# Altium schematic symbol library 18650 battery.SCHLIB: 113 symbols (part 2 of 2)
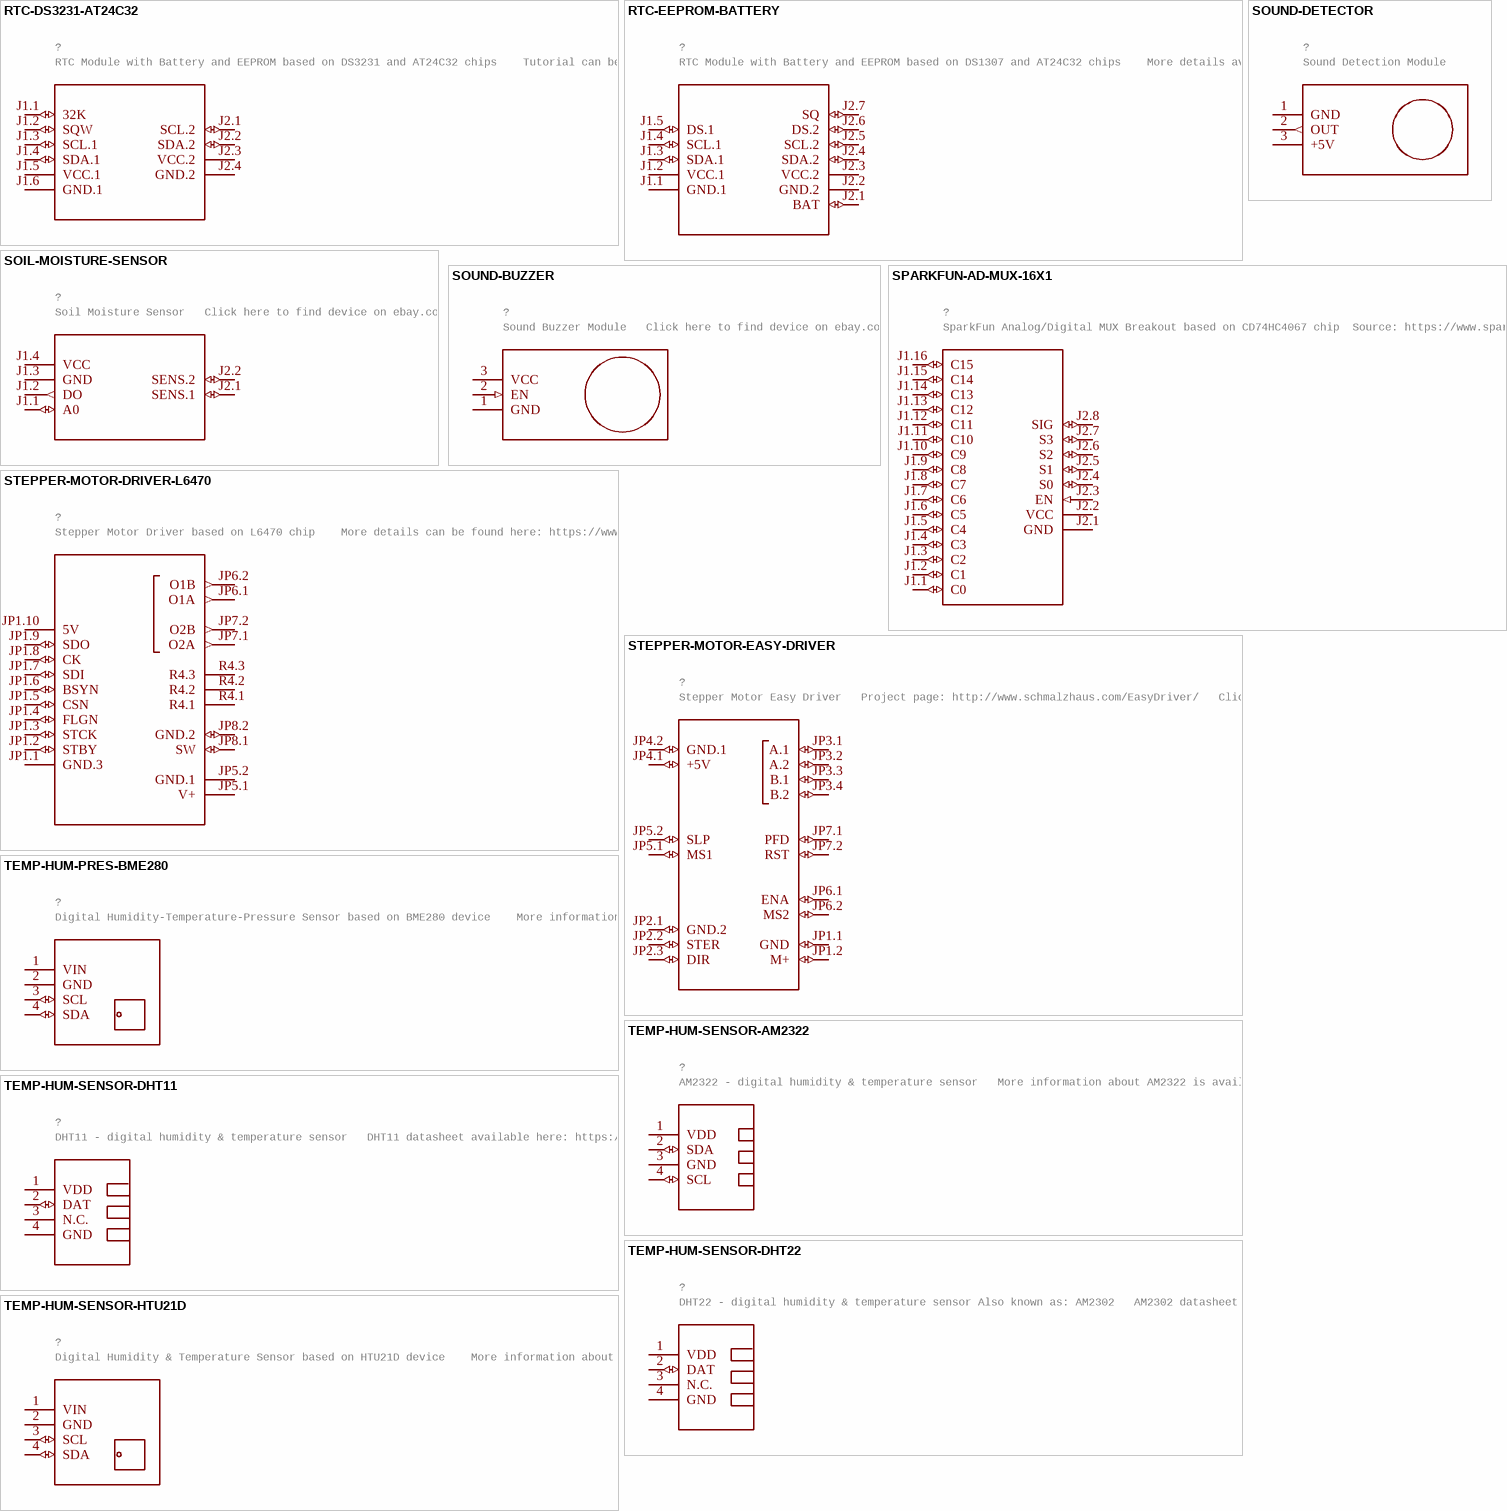
[diagram p13: symbols RTC-DS3231-AT24C32 to TEMP-HUM-SENSOR-HTU21D]

## TEMP-HUM-SENSOR-DHT11
designator ?, comment DHT11 - digital humidity & temperature sensor   DHT11 datasheet available here: https://akizukidenshi.com/download/ds/aosong/DHT11.pdf   Click here to find device on ebay.com
GateName_1: G$1; SymbolName_1: TEMP-HUM-SENSOR-DHT11; LibraryName: 18650 battery; DeviceSetName: TEMP-HUM-SENSOR-DHT11; Package: TEMP-HUM-SENSOR-DHT11
footprint TEMP-HUM-SENSOR-DHT11
pins: 1 VDD (power), 2 DAT (io), 3 N.C., 4 GND (power)

## TEMP-HUM-SENSOR-DHT22
designator ?, comment DHT22 - digital humidity & temperature sensor Also known as: AM2302   AM2302 datasheet available here: http://akizukidenshi.com/download/ds/aosong/AM2302.pdf   Click here to find device on ebay.com
GateName_1: G$1; SymbolName_1: TEMP-HUM-SENSOR-DHT22; LibraryName: 18650 battery; DeviceSetName: TEMP-HUM-SENSOR-DHT22; Package: TEMP-HUM-SENSOR-DHT22
footprint TEMP-HUM-SENSOR-DHT22
pins: 1 VDD (power), 2 DAT (io), 3 N.C., 4 GND (power)

## TEMP-HUM-SENSOR-HTU21D
designator ?, comment Digital Humidity & Temperature Sensor based on HTU21D device    More information about HTU21D device is available here: http://futureeverything.org/wp-content/uploads/2014/05/Humidity-Datasheet.pdf   HTU21D Arudino Library is available here: https://learn.sparkfun.com/tutorials/htu21d-humidity-sensor-hookup-guide/htu21d-library-and-functions   Click here to find device on ebay.com
GateName_1: G$1; SymbolName_1: TEMP-HUM-SENSOR-HTU21D; LibraryName: 18650 battery; DeviceSetName: TEMP-HUM-SENSOR-HTU21D; Package: TEMP-HUM-SENSOR-HTU21D
footprint TEMP-HUM-SENSOR-HTU21D
pins: 1 VIN (power), 2 GND (power), 3 SCL (io), 4 SDA (io)

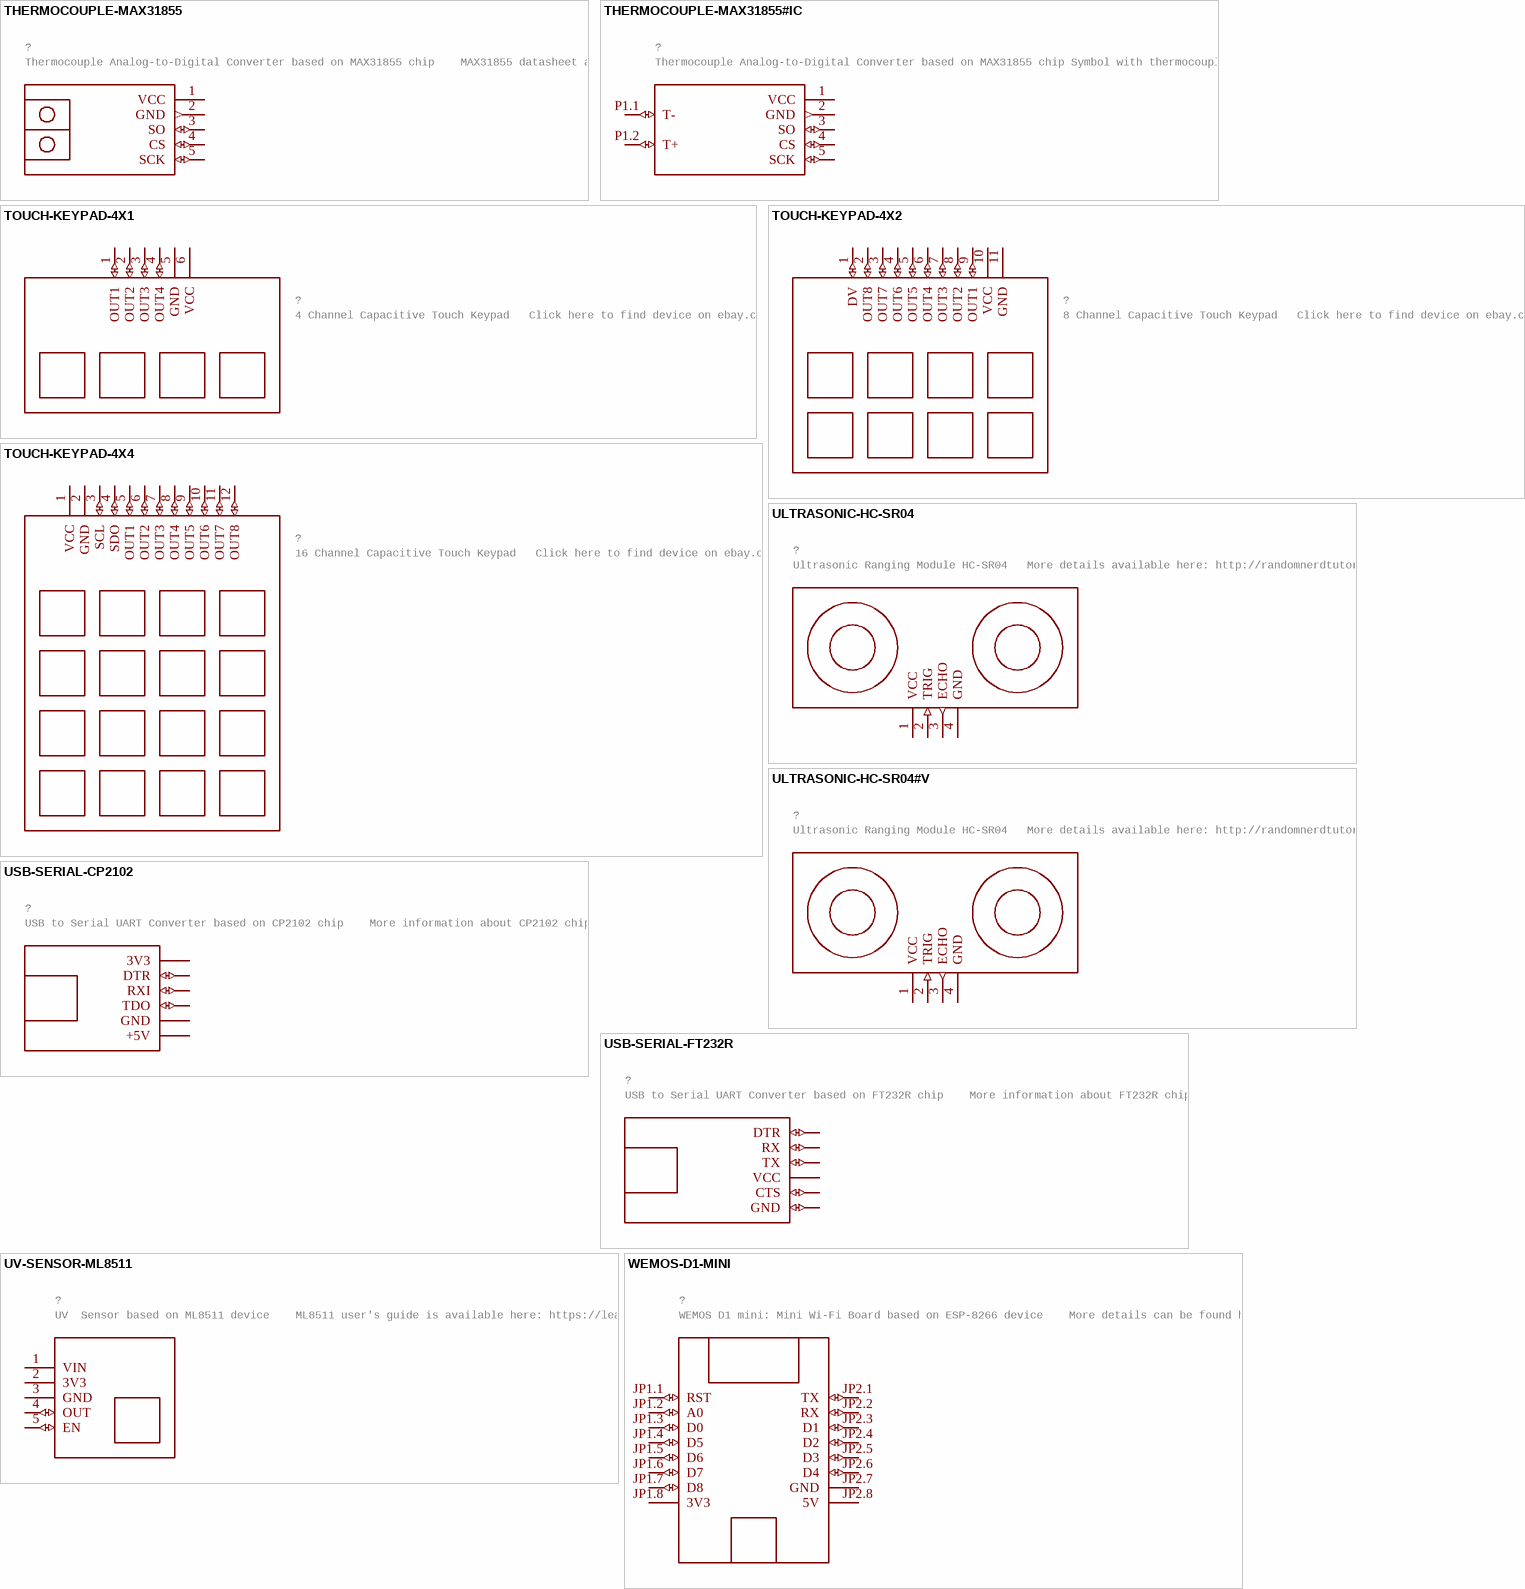
[diagram p10: symbols THERMOCOUPLE-MAX31855 to WEMOS-D1-MINI]

## THERMOCOUPLE-MAX31855
designator ?, comment Thermocouple Analog-to-Digital Converter based on MAX31855 chip    MAX31855 datasheet available here: https://www.maximintegrated.com/en/products/analog/sensors-and-sensor-interface/MAX31855.html   Click here to find device on ebay.com
GateName_1: G$1; SymbolName_1: THERMOCOUPLE-MAX31855; LibraryName: 18650 battery; DeviceSetName: THERMOCOUPLE-MAX31855; Package: THERMOCOUPLE-MAX31855
footprint THERMOCOUPLE-MAX31855
pins: 1 VCC (power), 2 GND (out), 3 SO (io), 4 CS (io), 5 SCK (io)

## THERMOCOUPLE-MAX31855#IC
designator ?, comment Thermocouple Analog-to-Digital Converter based on MAX31855 chip Symbol with thermocouple connector pins    MAX31855 datasheet available here: https://www.maximintegrated.com/en/products/analog/sensors-and-sensor-interface/MAX31855.html   Click here to find device on ebay.com
GateName_1: G$1; SymbolName_1: THERMOCOUPLE-MAX31855#IC; LibraryName: 18650 battery; DeviceSetName: THERMOCOUPLE-MAX31855#IC; Package: THERMOCOUPLE-MAX31855#IC
footprint THERMOCOUPLE-MAX31855#IC
pins: 1 VCC (power), 2 GND (out), 3 SO (io), 4 CS (io), 5 SCK (io), P1.1 T- (io), P1.2 T+ (io)

## TOUCH-KEYPAD-4X1
designator ?, comment 4 Channel Capacitive Touch Keypad   Click here to find device on ebay.com
GateName_1: G$1; SymbolName_1: TOUCH-KEYPAD-4X1; LibraryName: 18650 battery; DeviceSetName: TOUCH-KEYPAD-4X1; Package: TOUCH-KEYPAD-4X1
footprint TOUCH-KEYPAD-4X1
pins: 1 OUT1 (io), 2 OUT2 (io), 3 OUT3 (io), 4 OUT4 (io), 5 GND (power), 6 VCC (power)

## TOUCH-KEYPAD-4X2
designator ?, comment 8 Channel Capacitive Touch Keypad   Click here to find device on ebay.com
GateName_1: G$1; SymbolName_1: TOUCH-KEYPAD-4X2; LibraryName: 18650 battery; DeviceSetName: TOUCH-KEYPAD-4X2; Package: TOUCH-KEYPAD-4X2
footprint TOUCH-KEYPAD-4X2
pins: 1 DV (io), 2 OUT8 (io), 3 OUT7 (io), 4 OUT6 (io), 5 OUT5 (io), 6 OUT4 (io), 7 OUT3 (io), 8 OUT2 (io), 9 OUT1 (io), 10 VCC (power), 11 GND (power)

## TOUCH-KEYPAD-4X4
designator ?, comment 16 Channel Capacitive Touch Keypad   Click here to find device on ebay.com
GateName_1: G$1; SymbolName_1: TOUCH-KEYPAD-4X4; LibraryName: 18650 battery; DeviceSetName: TOUCH-KEYPAD-4X4; Package: TOUCH-KEYPAD-4X4
footprint TOUCH-KEYPAD-4X4
pins: 1 VCC (power), 2 GND (power), 3 SCL (io), 4 SDO (io), 5 OUT1 (io), 6 OUT2 (io), 7 OUT3 (io), 8 OUT4 (io), 9 OUT5 (io), 10 OUT6 (io), 11 OUT7 (io), 12 OUT8 (io)

## ULTRASONIC-HC-SR04
designator ?, comment Ultrasonic Ranging Module HC-SR04   More details available here: http://randomnerdtutorials.com/complete-guide-for-ultrasonic-sensor-hc-sr04/   Click here to find device on ebay.com
GateName_1: G$1; SymbolName_1: ULTRASONIC-HC-SR04; LibraryName: 18650 battery; DeviceSetName: ULTRASONIC-HC-SR04; Package: ULTRASONIC-HC-SR04
footprint ULTRASONIC-HC-SR04
pins: 1 VCC (power), 2 TRIG (in), 3 ECHO (out), 4 GND (power)

## ULTRASONIC-HC-SR04#V
designator ?, comment Ultrasonic Ranging Module HC-SR04   More details available here: http://randomnerdtutorials.com/complete-guide-for-ultrasonic-sensor-hc-sr04/   Click here to find device on ebay.com
GateName_1: G$1; SymbolName_1: ULTRASONIC-HC-SR04; DeviceName: #V; LibraryName: 18650 battery; DeviceSetName: ULTRASONIC-HC-SR04; Package: ULTRASONIC-HC-SR04#V
footprint ULTRASONIC-HC-SR04#V
pins: 1 VCC (power), 2 TRIG (in), 3 ECHO (out), 4 GND (power)

## USB-SERIAL-CP2102
designator ?, comment USB to Serial UART Converter based on CP2102 chip    More information about CP2102 chip is available here: https://www.silabs.com/documents/public/data-sheets/CP2102-9.pdf   Drivers for CP210x devices are available here: http://www.silabs.com/products/development-tools/software/usb-to-uart-bridge-vcp-drivers   Click here to find device on ebay.com
GateName_1: G$1; SymbolName_1: USB-SERIAL-CP2102; LibraryName: 18650 battery; DeviceSetName: USB-SERIAL-CP2102; Package: USB-SERIAL-CP2102
footprint USB-SERIAL-CP2102
pins: 1 3V3 (power), 2 DTR (io), 3 RXI (io), 4 TDO (io), 5 GND (power), 6 +5V (power)

## USB-SERIAL-FT232R
designator ?, comment USB to Serial UART Converter based on FT232R chip    More information about FT232R chip is available here: http://www.ftdichip.com/Products/ICs/FT232R.htm   Click here to find device on ebay.com
GateName_1: G$1; SymbolName_1: USB-SERIAL-FT232R; LibraryName: 18650 battery; DeviceSetName: USB-SERIAL-FT232R; Package: USB-SERIAL-FT232R
footprint USB-SERIAL-FT232R
pins: 1 DTR (io), 2 RX (io), 3 TX (io), 4 VCC (power), 5 CTS (io), 6 GND (io)

## UV-SENSOR-ML8511
designator ?, comment UV  Sensor based on ML8511 device    ML8511 user's guide is available here: https://learn.sparkfun.com/tutorials/ml8511-uv-sensor-hookup-guide/using-the-ml8511   ML8511 datasheet is available here: https://www.mcs.anl.gov/research/projects/waggle/downloads/datasheets/lightsense/ml8511.pdf   Click here to find device on ebay.com
GateName_1: G$1; SymbolName_1: UV-SENSOR-ML8511; LibraryName: 18650 battery; DeviceSetName: UV-SENSOR-ML8511; Package: UV-SENSOR-ML8511
footprint UV-SENSOR-ML8511
pins: 1 VIN (power), 2 3V3 (power), 3 GND (power), 4 OUT (io), 5 EN (io)

## WEMOS-D1-MINI
designator ?, comment WEMOS D1 mini: Mini Wi-Fi Board based on ESP-8266 device    More details can be found here: https://www.wemos.cc/product/d1-mini.html   Click here to find device on ebay.com
GateName_1: G$1; SymbolName_1: WEMOS-D1-MINI; LibraryName: 18650 battery; DeviceSetName: WEMOS-D1-MINI; Package: WEMOS-D1-MINI
footprint WEMOS-D1-MINI
pins: JP1.1 RST (io), JP1.2 A0 (io), JP1.3 D0 (io), JP1.4 D5 (io), JP1.5 D6 (io), JP1.6 D7 (io), JP1.7 D8 (io), JP1.8 3V3 (power), JP2.1 TX (io), JP2.2 RX (io), JP2.3 D1 (io), JP2.4 D2 (io), JP2.5 D3 (io), JP2.6 D4 (io), JP2.7 GND (power), JP2.8 5V (power)

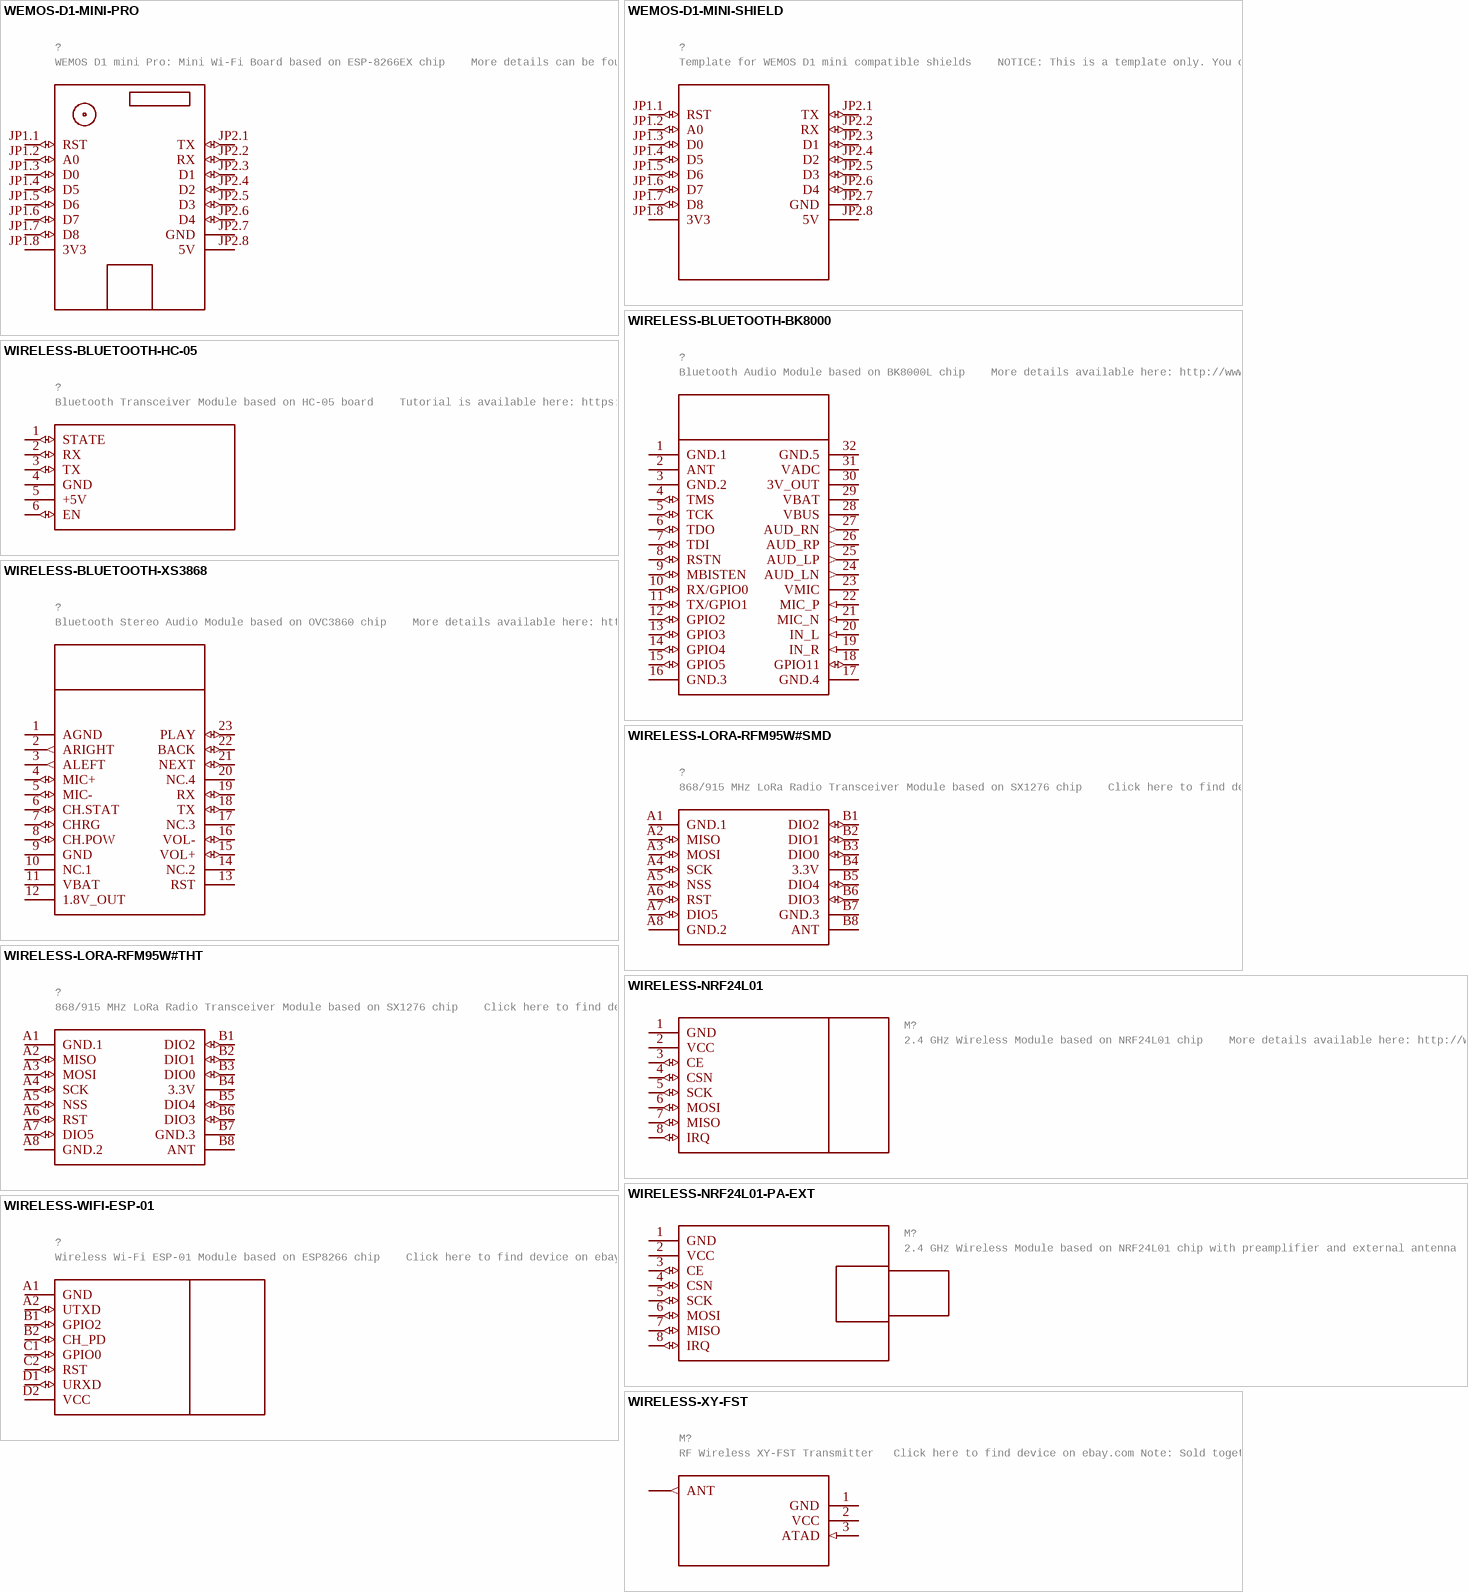
[diagram p11: symbols WEMOS-D1-MINI-PRO to WIRELESS-XY-FST]

## WEMOS-D1-MINI-PRO
designator ?, comment WEMOS D1 mini Pro: Mini Wi-Fi Board based on ESP-8266EX chip    More details can be found here: https://www.wemos.cc/product/d1-mini-pro.html   Click here to find device on ebay.com
GateName_1: G$1; SymbolName_1: WEMOS-D1-MINI-PRO; LibraryName: 18650 battery; DeviceSetName: WEMOS-D1-MINI-PRO; Package: WEMOS-D1-MINI-PRO
footprint WEMOS-D1-MINI-PRO
pins: JP1.1 RST (io), JP1.2 A0 (io), JP1.3 D0 (io), JP1.4 D5 (io), JP1.5 D6 (io), JP1.6 D7 (io), JP1.7 D8 (io), JP1.8 3V3 (power), JP2.1 TX (io), JP2.2 RX (io), JP2.3 D1 (io), JP2.4 D2 (io), JP2.5 D3 (io), JP2.6 D4 (io), JP2.7 GND (power), JP2.8 5V (power)

## WEMOS-D1-MINI-SHIELD
designator ?, comment Template for WEMOS D1 mini compatible shields    NOTICE: This is a template only. You can use it as a base to create symbols for WEMOS D1 mini compatible shields.    Official list of available shields can be found here: https://www.wemos.cc/D1-mini-Shields
GateName_1: G$1; SymbolName_1: WEMOS-D1-MINI-SHIELD; LibraryName: 18650 battery; DeviceSetName: WEMOS-D1-MINI-SHIELD; Package: WEMOS-D1-MINI-SHIELD
footprint WEMOS-D1-MINI-SHIELD
pins: JP1.1 RST (io), JP1.2 A0 (io), JP1.3 D0 (io), JP1.4 D5 (io), JP1.5 D6 (io), JP1.6 D7 (io), JP1.7 D8 (io), JP1.8 3V3 (power), JP2.1 TX (io), JP2.2 RX (io), JP2.3 D1 (io), JP2.4 D2 (io), JP2.5 D3 (io), JP2.6 D4 (io), JP2.7 GND (power), JP2.8 5V (power)

## WIRELESS-BLUETOOTH-BK8000
designator ?, comment Bluetooth Audio Module based on BK8000L chip    More details available here: http://www.electrodragon.com/w/BK8000L   Click here to find device on ebay.com
GateName_1: G$1; SymbolName_1: WIRELESS-BLUETOOTH-BK8000; LibraryName: 18650 battery; DeviceSetName: WIRELESS-BLUETOOTH-BK8000; Package: WIRELESS-BLUETOOTH-BK8000
footprint WIRELESS-BLUETOOTH-BK8000
pins: 1 GND.1 (power), 2 ANT, 3 GND.2 (power), 4 TMS (io), 5 TCK (io), 6 TDO (io), 7 TDI (io), 8 RSTN (io), 9 MBISTEN (io), 10 RX/GPIO0 (io), 11 TX/GPIO1 (io), 12 GPIO2 (io), 13 GPIO3 (io), 14 GPIO4 (io), 15 GPIO5 (io), 16 GND.3 (power), 17 GND.4 (power), 18 GPIO11 (io), 19 IN_R (in), 20 IN_L (in), 21 MIC_N (in), 22 MIC_P (in), 23 VMIC, 24 AUD_LN (out), 25 AUD_LP (out), 26 AUD_RP (out), 27 AUD_RN (out), 28 VBUS, 29 VBAT, 30 3V_OUT (power), 31 VADC (power), 32 GND.5 (power)

## WIRELESS-BLUETOOTH-HC-05
designator ?, comment Bluetooth Transceiver Module based on HC-05 board    Tutorial is available here: https://arduino-info.wikispaces.com/BlueTooth-HC05-HC06-Modules-How-To   Click here to find device on ebay.com
GateName_1: G$1; SymbolName_1: WIRELESS-BLUETOOTH-HC-05; LibraryName: 18650 battery; DeviceSetName: WIRELESS-BLUETOOTH-HC-05; Package: WIRELESS-BLUETOOTH-HC-05
footprint WIRELESS-BLUETOOTH-HC-05
pins: 1 STATE (io), 2 RX (io), 3 TX (io), 4 GND (power), 5 +5V (power), 6 EN (io)

## WIRELESS-BLUETOOTH-XS3868
designator ?, comment Bluetooth Stereo Audio Module based on OVC3860 chip    More details available here: http://artofcircuits.com/product/bluetooth-2-0-edr-stereo-audio-ovc3860-module-model-xs-3868   Click here to find device on ebay.com
GateName_1: G$1; SymbolName_1: WIRELESS-BLUETOOTH-XS3868; LibraryName: 18650 battery; DeviceSetName: WIRELESS-BLUETOOTH-XS3868; Package: WIRELESS-BLUETOOTH-XS3868
footprint WIRELESS-BLUETOOTH-XS3868
pins: 1 AGND (power), 2 ARIGHT (out), 3 ALEFT (out), 4 MIC+ (io), 5 MIC- (io), 6 CH.STAT (io), 7 CHRG (io), 8 CH.POW (io), 9 GND (power), 10 NC.1, 11 VBAT (power), 12 1.8V_OUT (power), 13 RST (power), 14 NC.2, 15 VOL+ (io), 16 VOL- (io), 17 NC.3, 18 TX (io), 19 RX (io), 20 NC.4, 21 NEXT (io), 22 BACK (io), 23 PLAY (io)

## WIRELESS-LORA-RFM95W#SMD
designator ?, comment 868/915 MHz LoRa Radio Transceiver Module based on SX1276 chip    Click here to find device on ebay.com
GateName_1: G$1; SymbolName_1: WIRELESS-LORA-RFM95W; DeviceName: #SMD; LibraryName: 18650 battery; DeviceSetName: WIRELESS-LORA-RFM95W; Package: WIRELESS-LORA-RFM95W#SMD
footprint WIRELESS-LORA-RFM95W#SMD
pins: A1 GND.1 (power), A2 MISO (io), A3 MOSI (io), A4 SCK (io), A5 NSS (io), A6 RST (io), A7 DIO5 (io), A8 GND.2 (power), B1 DIO2 (io), B2 DIO1 (io), B3 DIO0 (io), B4 3.3V (power), B5 DIO4 (io), B6 DIO3 (io), B7 GND.3 (power), B8 ANT

## WIRELESS-LORA-RFM95W#THT
designator ?, comment 868/915 MHz LoRa Radio Transceiver Module based on SX1276 chip    Click here to find device on ebay.com
GateName_1: G$1; SymbolName_1: WIRELESS-LORA-RFM95W; DeviceName: #THT; LibraryName: 18650 battery; DeviceSetName: WIRELESS-LORA-RFM95W; Package: WIRELESS-LORA-RFM95W#THT
footprint WIRELESS-LORA-RFM95W#THT
pins: A1 GND.1 (power), A2 MISO (io), A3 MOSI (io), A4 SCK (io), A5 NSS (io), A6 RST (io), A7 DIO5 (io), A8 GND.2 (power), B1 DIO2 (io), B2 DIO1 (io), B3 DIO0 (io), B4 3.3V (power), B5 DIO4 (io), B6 DIO3 (io), B7 GND.3 (power), B8 ANT

## WIRELESS-NRF24L01
designator M?, comment 2.4 GHz Wireless Module based on NRF24L01 chip    More details available here: http://www.electrodragon.com/w/NRF24L01   Click here to find device on ebay.com
GateName_1: G$1; SymbolName_1: WIRELESS-NRF24L01; LibraryName: 18650 battery; DeviceSetName: WIRELESS-NRF24L01; Package: WIRELESS-NRF24L01
footprint WIRELESS-NRF24L01
pins: 1 GND (power), 2 VCC (power), 3 CE (io), 4 CSN (io), 5 SCK (io), 6 MOSI (io), 7 MISO (io), 8 IRQ (io)

## WIRELESS-NRF24L01-PA-EXT
designator M?, comment 2.4 GHz Wireless Module based on NRF24L01 chip with preamplifier and external antenna    Click here to find device on ebay.com
GateName_1: G$1; SymbolName_1: WIRELESS-NRF24L01-PA-EXT; LibraryName: 18650 battery; DeviceSetName: WIRELESS-NRF24L01-PA-EXT; Package: WIRELESS-NRF24L01-PA-EXT
footprint WIRELESS-NRF24L01-PA-EXT
pins: 1 GND (power), 2 VCC (power), 3 CE (io), 4 CSN (io), 5 SCK (io), 6 MOSI (io), 7 MISO (io), 8 IRQ (io)

## WIRELESS-WIFI-ESP-01
designator ?, comment Wireless Wi-Fi ESP-01 Module based on ESP8266 chip    Click here to find device on ebay.com
GateName_1: G$1; SymbolName_1: WIRELESS-WIFI-ESP-01; LibraryName: 18650 battery; DeviceSetName: WIRELESS-WIFI-ESP-01; Package: WIRELESS-WIFI-ESP-01
footprint WIRELESS-WIFI-ESP-01
pins: A1 GND (power), A2 UTXD (io), B1 GPIO2 (io), B2 CH_PD (io), C1 GPIO0 (io), C2 RST (io), D1 URXD (io), D2 VCC (power)

## WIRELESS-XY-FST
designator M?, comment RF Wireless XY-FST Transmitter   Click here to find device on ebay.com Note: Sold together with receiver.
GateName_1: G$1; SymbolName_1: WIRELESS-XY-FST; LibraryName: 18650 battery; DeviceSetName: WIRELESS-XY-FST; Package: WIRELESS-XY-FST
footprint WIRELESS-XY-FST
pins: 1 GND (power), 2 VCC (power), 3 ATAD (in), ANT (out)

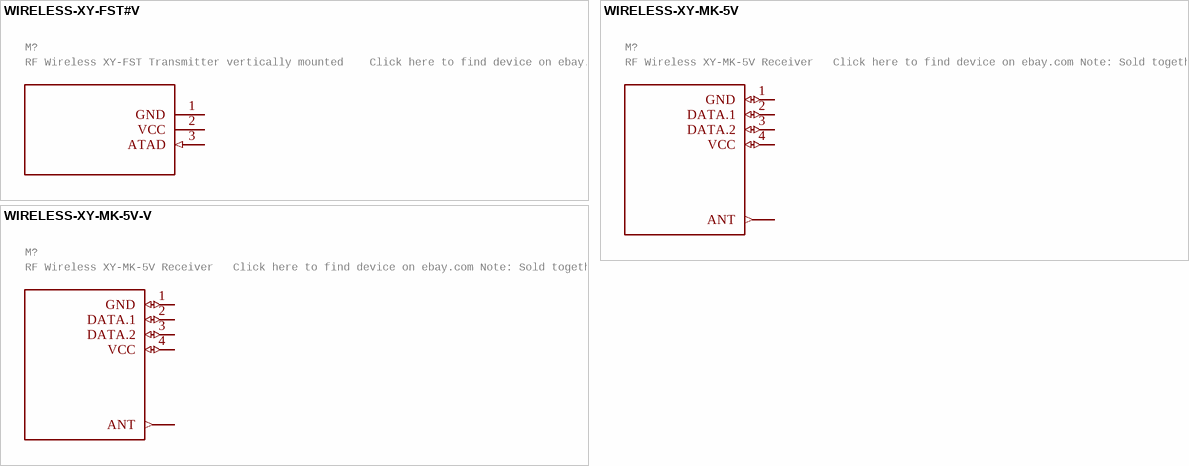
[diagram p12: symbols WIRELESS-XY-FST#V to WIRELESS-XY-MK-5V-V]

## WIRELESS-XY-FST#V
designator M?, comment RF Wireless XY-FST Transmitter vertically mounted    Click here to find device on ebay.com Note: Sold together with receiver.
GateName_1: G$1; SymbolName_1: WIRELESS-XY-FST#V; LibraryName: 18650 battery; DeviceSetName: WIRELESS-XY-FST#V; Package: WIRELESS-XY-FST#V
footprint WIRELESS-XY-FST#V
pins: 1 GND (power), 2 VCC (power), 3 ATAD (in)

## WIRELESS-XY-MK-5V
designator M?, comment RF Wireless XY-MK-5V Receiver   Click here to find device on ebay.com Note: Sold together with transmitter.
GateName_1: G$1; SymbolName_1: WIRELESS-XY-MK-5V; LibraryName: 18650 battery; DeviceSetName: WIRELESS-XY-MK-5V; Package: WIRELESS-XY-MK-5V
footprint WIRELESS-XY-MK-5V
pins: 1 GND (io), 2 DATA.1 (io), 3 DATA.2 (io), 4 VCC (io), ANT (out)

## WIRELESS-XY-MK-5V-V
designator M?, comment RF Wireless XY-MK-5V Receiver   Click here to find device on ebay.com Note: Sold together with transmitter.
GateName_1: G$1; SymbolName_1: WIRELESS-XY-MK-5V; DeviceName: -V; LibraryName: 18650 battery; DeviceSetName: WIRELESS-XY-MK-5V; Package: WIRELESS-XY-MK-5V#V
footprint WIRELESS-XY-MK-5V#V
pins: 1 GND (io), 2 DATA.1 (io), 3 DATA.2 (io), 4 VCC (io), ANT (out)